# Altium schematic symbol library LCD.SchLib: 4 symbols
Pins are listed as number, name and electrical type; pins without a type are passive.

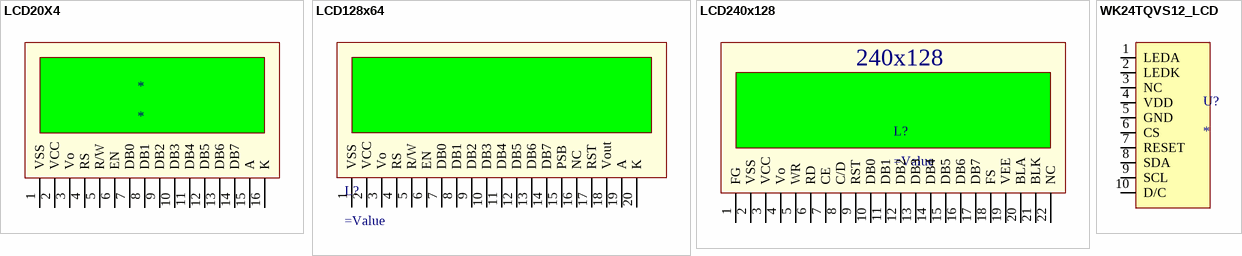
[diagram p0: symbols LCD20X4 to WK24TQVS12_LCD]

## LCD20X4
designator *
pins: 1 VSS, 2 VCC, 3 Vo, 4 RS, 5 R/W, 6 EN, 7 DB0, 8 DB1, 9 DB2, 10 DB3, 11 DB4, 12 DB5, 13 DB6, 14 DB7, 15 A, 16 K

## LCD128x64
designator L?
=Description
pins: 1 VSS, 2 VCC, 3 Vo, 4 RS, 5 R/W, 6 EN, 7 DB0, 8 DB1, 9 DB2, 10 DB3, 11 DB4, 12 DB5, 13 DB6, 14 DB7, 15 PSB, 16 NC, 17 RST, 18 Vout, 19 A, 20 K

## LCD240x128
designator L?
=Description
pins: 1 FG, 2 VSS, 3 VCC, 4 Vo, 5 WR, 6 RD, 7 CE, 8 C/D, 9 RST, 10 DB0, 11 DB1, 12 DB2, 13 DB3, 14 DB4, 15 DB5, 16 DB6, 17 DB7, 18 FS, 19 VEE, 20 BLA, 21 BLK, 22 NC
text: 240x128

## WK24TQVS12_LCD
designator U?
pins: 1 LEDA, 2 LEDK, 3 NC, 4 VDD, 5 GND, 6 CS, 7 RESET, 8 SDA, 9 SCL, 10 D/C